# EAGLE library part LPS331AP (library LPS)
STM Barometer NOTES: -CS must be high for I2C -Pin 10 must physically connect to ground
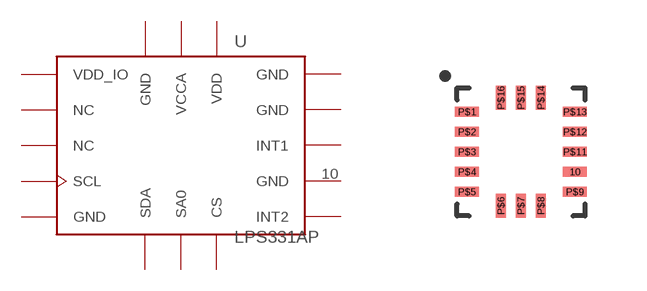
[diagram p0: symbol with the pads of HCLGA-16L; footprint HCLGA-16L]

Designator prefix -

## LPS331AP  [HCLGA-16L]
10  GND  pwr
P$1  VDD_IO  pwr
P$2  NC  nc
P$3  NC  nc
P$4  SCL
P$5  GND  pwr
P$6  SDA
P$7  SA0
P$8  CS
P$9  INT2
P$11  INT1
P$12  GND  pwr
P$13  GND  pwr
P$14  VDD  pwr
P$15  VCCA  pwr
P$16  GND  pwr

## Footprint HCLGA-16L (pad centres in mm)
smd 0.6 x 0.25: 10 1.35,-0.5; P$1 -1.35,1; P$2 -1.35,0.5; P$3 -1.35,0; P$4 -1.35,-0.5; P$5 -1.35,-1; P$9 1.35,-1; P$11 1.35,0; P$12 1.35,0.5; P$13 1.35,1
smd 0.25 x 0.6: P$6 -0.5,-1.35; P$7 0,-1.35; P$8 0.5,-1.35; P$14 0.5,1.35; P$15 0,1.35; P$16 -0.5,1.35